# Altium schematic symbol library PIC24FJ256GB110A.Schlib: 1 symbol
Pins are listed as number, name and electrical type; pins without a type are passive.

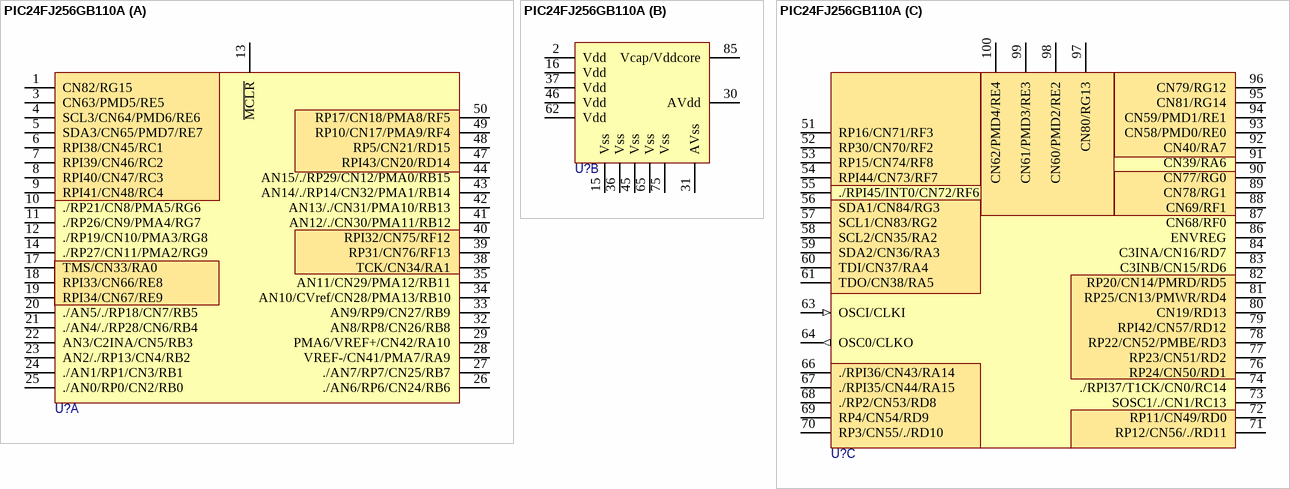
[diagram p0: symbol PIC24FJ256GB110A]

## PIC24FJ256GB110A
designator U?
part A pins: 1 CN82/RG15 (hiz), 3 CN63/PMD5/RE5 (hiz), 4 SCL3/CN64/PMD6/RE6 (hiz), 5 SDA3/CN65/PMD7/RE7 (hiz), 6 RPI38/CN45/RC1 (hiz), 7 RPI39/CN46/RC2 (hiz), 8 RPI40/CN47/RC3 (power), 9 RPI41/CN48/RC4 (power), 10 ./RP21/CN8/PMA5/RG6 (hiz), 11 ./RP26/CN9/PMA4/RG7 (hiz), 12 ./RP19/CN10/PMA3/RG8 (hiz), 13 ~{MCLR}, 14 ./RP27/CN11/PMA2/RG9 (hiz), 17 TMS/CN33/RA0 (hiz), 18 RPI33/CN66/RE8 (hiz), 19 RPI34/CN67/RE9 (hiz), 20 ./AN5/./RP18/CN7/RB5 (hiz), 21 ./AN4/./RP28/CN6/RB4 (hiz), 22 AN3/C2INA/CN5/RB3 (hiz), 23 AN2/./RP13/CN4/RB2 (hiz), 24 ./AN1/RP1/CN3/RB1 (hiz), 25 ./AN0/RP0/CN2/RB0 (hiz), 26 ./AN6/RP6/CN24/RB6 (hiz), 27 ./AN7/RP7/CN25/RB7 (hiz), 28 VREF-/CN41/PMA7/RA9 (hiz), 29 PMA6/VREF+/CN42/RA10 (hiz), 32 AN8/RP8/CN26/RB8 (hiz), 33 AN9/RP9/CN27/RB9 (hiz), 34 AN10/CVref/CN28/PMA13/RB10 (hiz), 35 AN11/CN29/PMA12/RB11 (hiz), 38 TCK/CN34/RA1 (hiz), 39 RP31/CN76/RF13 (hiz), 40 RPI32/CN75/RF12 (hiz), 41 AN12/./CN30/PMA11/RB12 (hiz), 42 AN13/./CN31/PMA10/RB13 (hiz), 43 AN14/./RP14/CN32/PMA1/RB14 (hiz), 44 AN15/./RP29/CN12/PMA0/RB15 (hiz), 47 RPI43/CN20/RD14 (hiz), 48 RP5/CN21/RD15 (hiz), 49 RP10/CN17/PMA9/RF4 (hiz), 50 RP17/CN18/PMA8/RF5 (hiz)
part B pins: 2 Vdd (power), 15 Vss (power), 16 Vdd (power), 30 AVdd (power), 31 AVss (power), 36 Vss (power), 37 Vdd (power), 45 Vss (power), 46 Vdd (power), 62 Vdd (power), 65 Vss (power), 75 Vss (power), 85 Vcap/Vddcore (power)
part C pins: 51 RP16/CN71/RF3 (hiz), 52 RP30/CN70/RF2 (hiz), 53 RP15/CN74/RF8 (hiz), 54 RPI44/CN73/RF7 (hiz), 55 ./RPI45/INT0/CN72/RF6 (hiz), 56 SDA1/CN84/RG3 (hiz), 57 SCL1/CN83/RG2 (power), 58 SCL2/CN35/RA2 (power), 59 SDA2/CN36/RA3 (hiz), 60 TDI/CN37/RA4 (hiz), 61 TDO/CN38/RA5 (hiz), 63 OSCI/CLKI (in), 64 OSC0/CLKO (out), 66 ./RPI36/CN43/RA14 (hiz), 67 ./RPI35/CN44/RA15 (hiz), 68 ./RP2/CN53/RD8 (hiz), 69 RP4/CN54/RD9 (hiz), 70 RP3/CN55/./RD10 (hiz), 71 RP12/CN56/./RD11 (hiz), 72 RP11/CN49/RD0 (hiz), 73 SOSC1/./CN1/RC13 (hiz), 74 ./RPI37/T1CK/CN0/RC14 (hiz), 76 RP24/CN50/RD1 (hiz), 77 RP23/CN51/RD2 (hiz), 78 RP22/CN52/PMBE/RD3 (hiz), 79 RPI42/CN57/RD12 (hiz), 80 CN19/RD13 (hiz), 81 RP25/CN13/PMWR/RD4 (hiz), 82 RP20/CN14/PMRD/RD5 (hiz), 83 C3INB/CN15/RD6 (hiz), 84 C3INA/CN16/RD7 (hiz), 86 ENVREG (hiz), 87 CN68/RF0 (hiz), 88 CN69/RF1 (hiz), 89 CN78/RG1 (hiz), 90 CN77/RG0 (hiz), 91 CN39/RA6 (hiz), 92 CN40/RA7 (hiz), 93 CN58/PMD0/RE0 (hiz), 94 CN59/PMD1/RE1 (hiz), 95 CN81/RG14 (hiz), 96 CN79/RG12 (hiz), 97 CN80/RG13 (hiz), 98 CN60/PMD2/RE2 (hiz), 99 CN61/PMD3/RE3 (hiz), 100 CN62/PMD4/RE4 (hiz)